# Altium footprint library PHOENIX_1827923.PcbLib: 1 footprints
Each footprint in its own frame and in the unit in brackets; x right, y up, seen from the top. Pads: shape width x height; smd on the part's side, far side on the other; paste and mask are expansions set on the pad; w line width, h text height; cw(c..) or ccw(c..) is an arc to the next point about the centre after c.
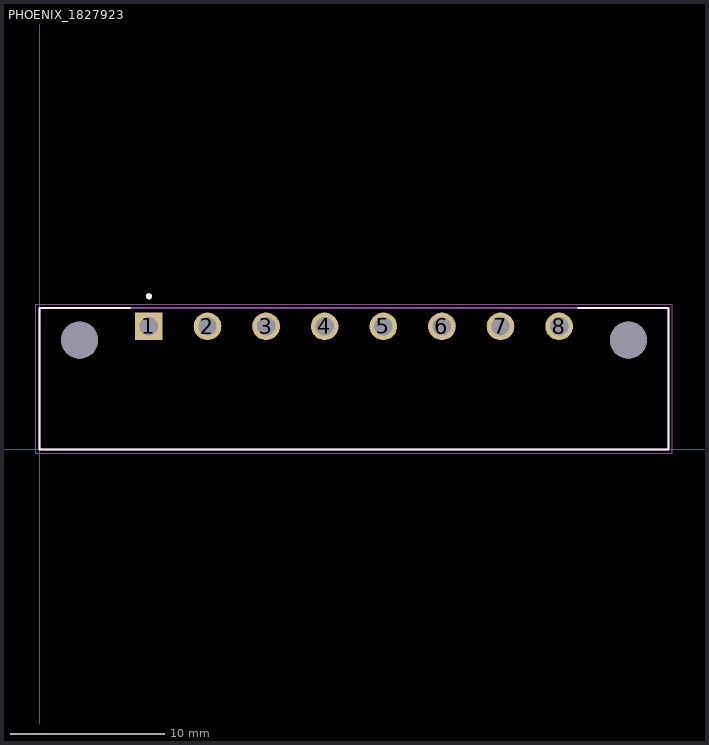
[diagram p0: the footprint, top view; thin cyan lines are the x and y axes]

## PHOENIX_1827923 [mm]
pads (10):
  rect 1.8x1.8 / inner round 1.8 / far side rect 1.8x1.8 hole 1.2: 1(7.1,8)
  round 1.8 hole 1.2: 2(10.91,8) 3(14.72,8) 4(18.53,8) 5(22.34,8) 6(26.15,8) 7(29.96,8) 8(33.77,8)
  round 2.4 hole 2.4 unplated: ""(2.6,7.1) ""(38.27,7.1)
Top Overlay:
  circle w0.2: c7.1,9.95 r0.1
  lines w0.127: 5.88,9.2 0,9.2 0,0 40.87,0 40.87,9.2 34.99,9.2
Mechanical 13:
  circle w0.2: c7.1,9.95 r0.1
  lines w0.127: 0,0 40.87,0 40.87,9.2 0,9.2 0,0
Mechanical 15:
  lines w0.05: -0.25,-0.25 -0.25,9.45 41.12,9.45 41.12,-0.25 -0.25,-0.25
3D body "1827923.stp": height 7.25, standoff -3.4, extent 0.008,0 40.878,9.2